# Altium footprint library ResCap_smd.PcbLib: 21 footprints (part 2 of 2)
Each footprint in its own frame and in the unit in brackets; x right, y up, seen from the top. Pads: shape width x height; smd on the part's side, far side on the other; paste and mask are expansions set on the pad; w line width, h text height; cw(c..) or ccw(c..) is an arc to the next point about the centre after c.
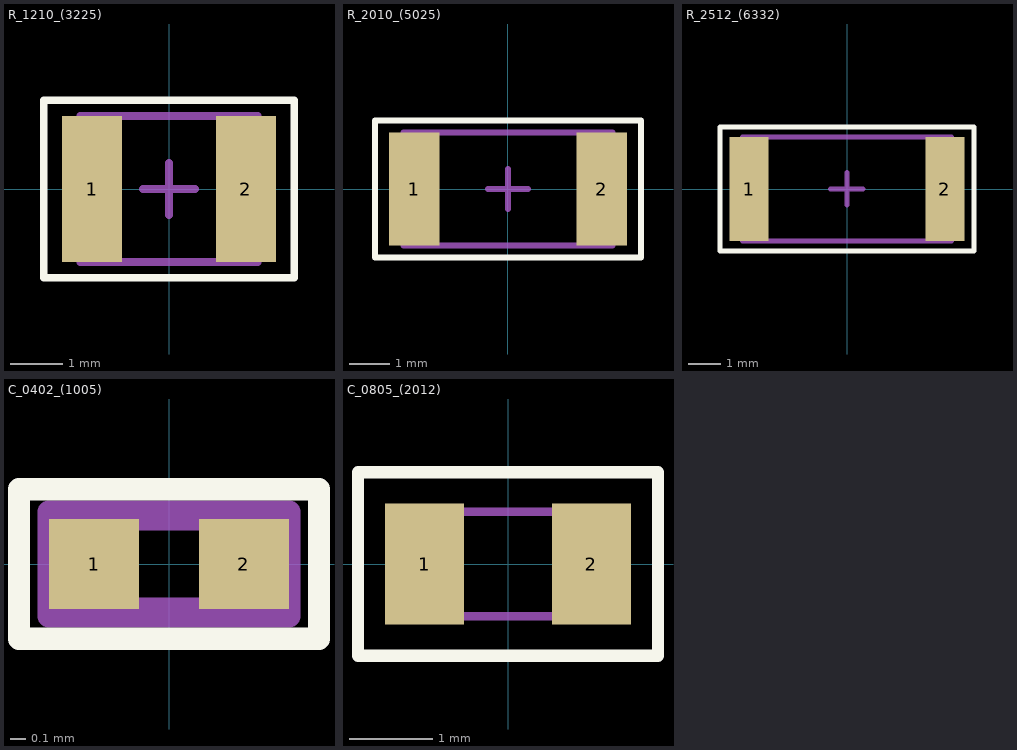
[diagram p1: the footprints below, top view; thin cyan lines are the x and y axes]

## R_1210_(3225) [mm]
pads (2):
  rect 1.15x2.8 smd: 1(-1.475,0) 2(1.475,0)
Top Overlay:
  lines w0.15: -2.4,-1.7 2.4,-1.7 2.4,1.7 -2.4,1.7 -2.4,-1.7
Top 3D Body:
  lines w0.15: -0.5,0 0.5,0 ; 0,-0.5 0,0.5 ; -1.7,-1.4 -1.7,1.4 1.7,1.4 1.7,-1.4 -1.7,-1.4
Mechanical 29:
  lines w0.15: -1.7,-1.4 -1.7,1.4 1.7,1.4 1.7,-1.4 -1.7,-1.4
  text ".Designator" at -1.5,-0.4 h1
3D body "C1210R.step": height 0.7, standoff 0, extent -1.7,-1.4 1.7,1.4

## R_2010_(5025) [mm]
pads (2):
  rect 1.25x2.8 smd: 1(-2.325,0) 2(2.325,0)
Top Overlay:
  lines w0.15: -3.3,-1.7 -3.3,1.7 3.3,1.7 3.3,-1.7 -3.3,-1.7
Top 3D Body:
  lines w0.15: -0.5,0 0.5,0 ; 0,-0.5 0,0.5 ; -2.6,-1.4 -2.6,1.4 2.6,1.4 2.6,-1.4 -2.6,-1.4
Mechanical 29:
  lines w0.15: -2.6,-1.4 -2.6,1.4 2.6,1.4 2.6,-1.4 -2.6,-1.4
  text ".Designator" at -2.2,-0.5 h1
3D body "C2010R.step": height 0.7, standoff 0, extent -2.6,-1.4 2.6,1.4

## R_2512_(6332) [mm]
pads (2):
  rect 1.2x3.2 smd: 1(-3,0) 2(3,0)
Top Overlay:
  lines w0.15: -3.9,-1.9 3.9,-1.9 3.9,1.9 -3.9,1.9 -3.9,-1.9
Top 3D Body:
  lines w0.15: -0.5,0 0.5,0 ; 0,-0.5 0,0.5 ; -3.2,-1.6 -3.2,1.6 3.2,1.6 3.2,-1.6 -3.2,-1.6
Mechanical 29:
  lines w0.15: -3.175,-1.6 -3.175,1.6 3.175,1.6 3.175,-1.6 -3.175,-1.6
  text ".Designator" at -3,-0.4 h1
3D body: height 0.55, standoff 0, extent -2.5,-1.6 2.5,1.6
3D body: height 0.55, standoff 0, extent 2.5,-1.6 3.2,1.6
3D body: height 0.55, standoff 0, extent -3.2,-1.6 -2.5,1.6

## С_0402_(1005) [mm]
pads (2):
  rect 0.6x0.6 smd: 1(-0.5,0) 2(0.5,0)
Top Overlay:
  lines w0.15: -1,-0.5 -1,0.5 1,0.5 1,-0.5 -1,-0.5
Top 3D Body:
  lines w0.15: -0.8,-0.3 0.8,-0.3 0.8,0.3 -0.8,0.3 -0.8,-0.3
Mechanical 29:
  lines w0.15: -0.8,-0.35 -0.8,0.35 0.8,0.35 0.8,-0.35 -0.8,-0.35
3D body "0402C.STEP": height 0.36, standoff 0, extent -0.5,-0.265 0.5,0.265

## С_0805_(2012) [mm]
pads (2):
  rect 0.95x1.45 smd: 1(-1,0) 2(1,0)
Top Overlay:
  lines w0.15: -1.8,-1.1 -1.8,1.1 1.8,1.1 1.8,-1.1 -1.8,-1.1
Mechanical 13:
  lines w0.1: -1.025,-0.625 -1.025,0.625 ; 1.025,-0.625 1.025,0.625 ; -1,-0.625 -1,0.625 1,0.625 1,-0.625 -1,-0.625
3D body "VJ0805A471JCAAJ.stp": height 1.45, standoff 0, extent -1,-0.625 1,0.625